# Altium schematic symbol library PJ-114AH-SMT-TR.SchLib: 1 symbol
Pins are listed as number, name and electrical type; pins without a type are passive.

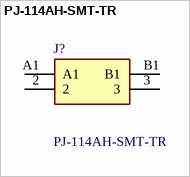
[diagram p0: symbol PJ-114AH-SMT-TR]

## PJ-114AH-SMT-TR
designator J?
2.0 x 6.4 mm, 5.0 A, Horizontal, Through Hole, Dc Power Jack Connector; Manufacturer_Name: Same Sky; Geometry.Height: 11.5mm; Manufacturer_Part_Number: PJ-114AH-SMT-TR; Mouser Part Number: 179-PJ-114AH-SMT-TR; Mouser Price/Stock: https://www.mouser.co.uk/ProductDetail/Same-Sky/PJ-114AH-SMT-TR?qs=3vio67wFuYrzGt00DZL31g%3D%3D; Arrow Part Number: *; Arrow Price/Stock: *; Datasheet Link: https://www.sameskydevices.com/product/resource/pj-114ah-smt-tr.pdf
footprint PJ114AHSMTTR
pins: 2, 3, A1, B1